# Altium integrated library XB3-24Z8US-J.IntLib: 1 symbol
Pins are listed as number, name and electrical type; pins without a type are passive.

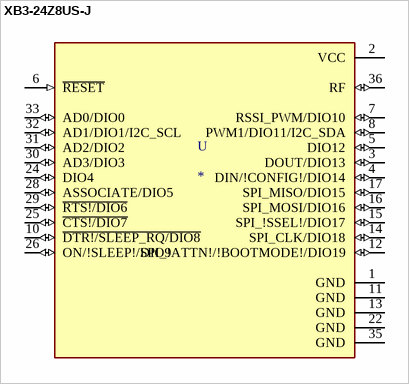
[diagram p0: symbol XB3-24Z8US-J]

## XB3-24Z8US-J
designator U
802.15.4 ZigbeeÂ® Transceiver Module 2.4GHz Antenna Not Included, U.FL Surface Mount; MP: XB3-24Z8US-J; MF: Digi International; SnapEDA_Link: https://www.snapeda.com/parts/XB3-24Z8US-J/Digi%20International/view-part/3228413/?ref=snap; Availability: Unavailable; Price: None; Value: *; Package: SMD-34 Digi International
footprint XCVR_XB3-24Z8US-J
pins: 1 GND (power), 2 VCC (power), 3 DOUT/DIO13 (io), 4 DIN/!CONFIG!/DIO14 (io), 5 DIO12 (io), 6 ~{RESET} (in), 7 RSSI_PWM/DIO10 (io), 8 PWM1/DIO11/I2C_SDA (io), 10 ~{DTR!/SLEEP_RQ/DIO8} (io), 11 GND (power), 12 SPI_!ATTN!/!BOOTMODE!/DIO19 (io), 13 GND (power), 14 SPI_CLK/DIO18 (io), 15 SPI_!SSEL!/DIO17 (io), 16 SPI_MOSI/DIO16 (io), 17 SPI_MISO/DIO15 (io), 22 GND (power), 24 DIO4 (io), 25 ~{CTS!/DIO7} (io), 26 ON/!SLEEP!/DIO9 (io), 28 ASSOCIATE/DIO5 (io), 29 ~{RTS!/DIO6} (io), 30 AD3/DIO3 (io), 31 AD2/DIO2 (io), 32 AD1/DIO1/I2C_SCL (io), 33 AD0/DIO0 (io), 35 GND (power), 36 RF (io)